# Altium footprint library UVS-PcbLib.PcbLib: 37 footprints (part 1 of 3)
Each footprint in its own frame and in the unit in brackets; x right, y up, seen from the top. Pads: shape width x height; smd on the part's side, far side on the other; paste and mask are expansions set on the pad; w line width, h text height; cw(c..) or ccw(c..) is an arc to the next point about the centre after c.
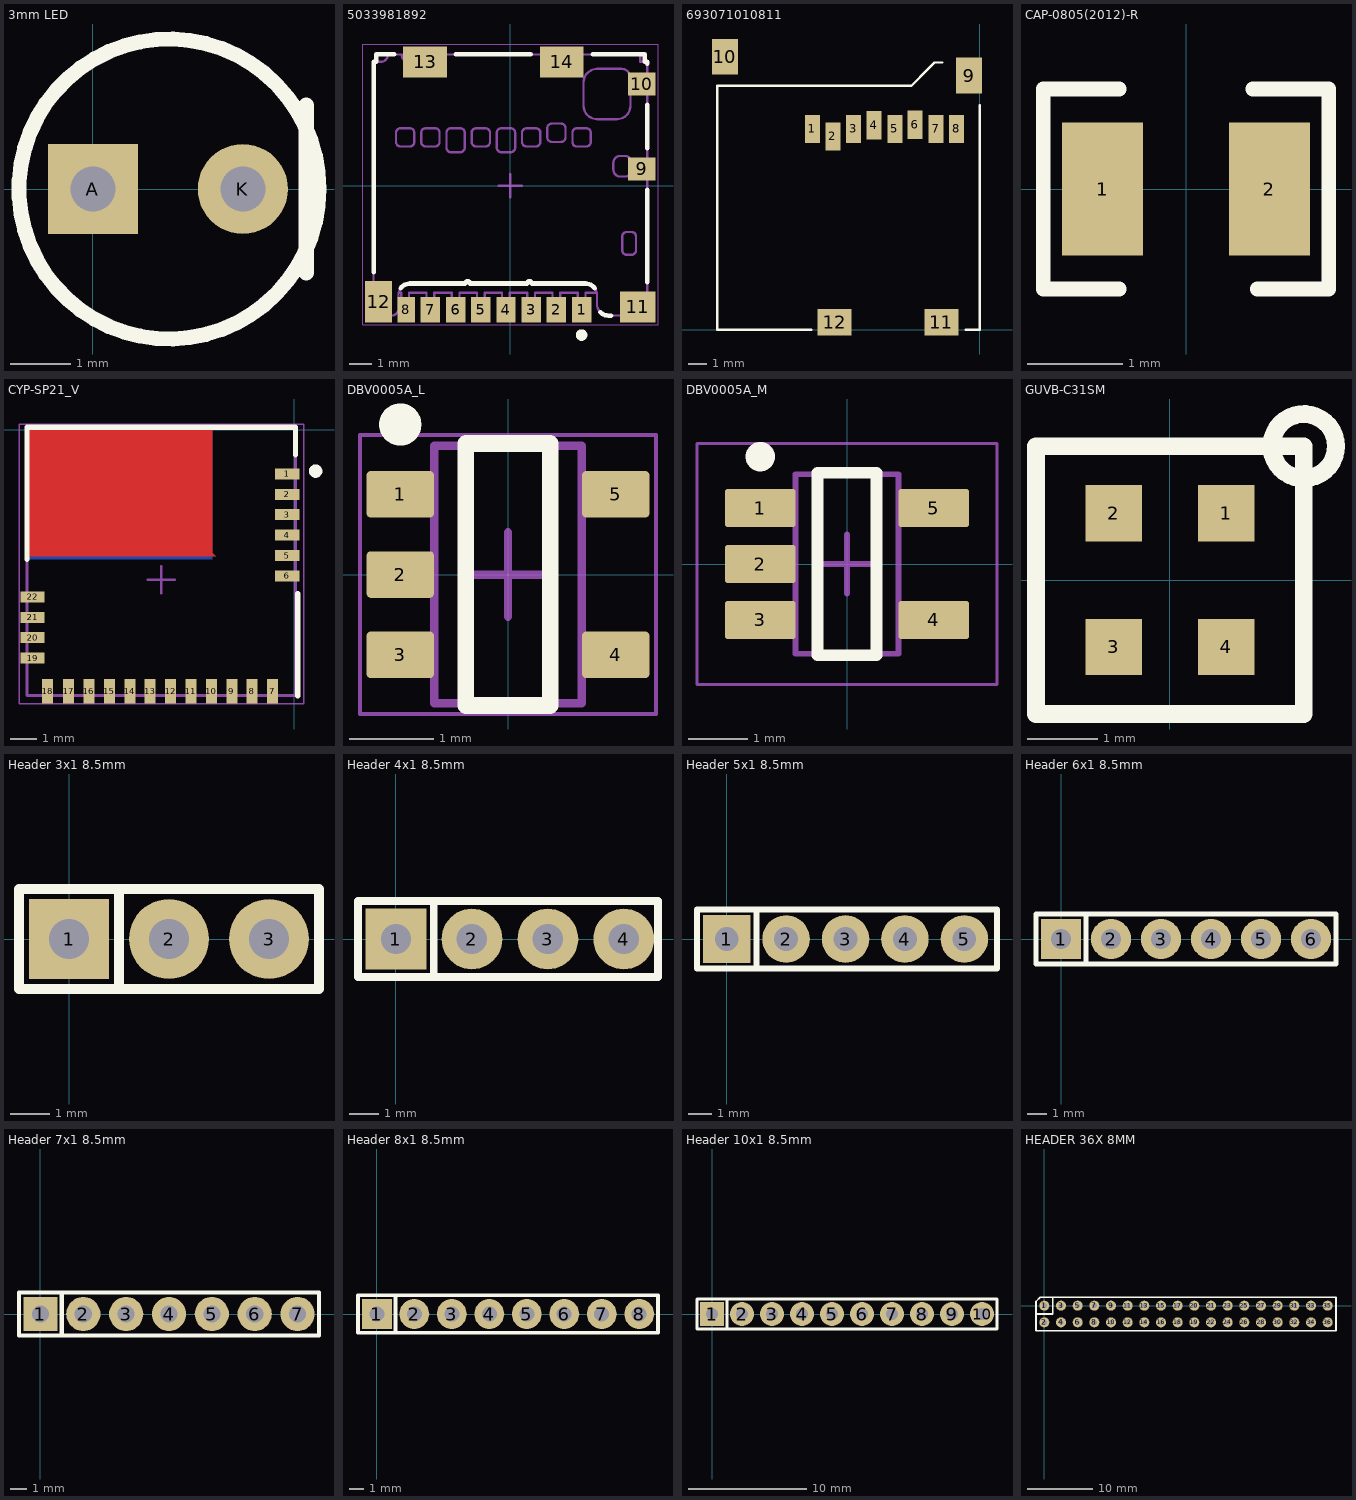
[diagram p0: the footprints below, top view; thin cyan lines are the x and y axes]

## 3mm LED [mm] "UV LED"
pads (2):
  rect 1.5x1.5 hole 0.75: A(0,0)
  round 1.5 hole 0.75: K(2.5,0)
Top Overlay:
  circle w0.25: c1.27,0 r2.5
  lines w0.254: 3.556,-1.397 3.556,1.397
3D body "3mm LED.STEP": height 6.3, standoff -4.1, extent -0.63,-1.9 2.77,1.9

## 5033981892 [mm] "Micro SD, 8-Leads, Body 11.95x11.4mm, Pitch 1.1mm"
height 1.57
pads (14):
  rect 0.85x1.1 smd: 1(3.113,-5.412) 2(2.013,-5.412) 3(0.913,-5.412) 4(-0.188,-5.412) 5(-1.288,-5.412) 6(-2.387,-5.412) 7(-3.487,-5.412)
  rect 0.75x1.1 smd: 8(-4.537,-5.412)
  rect 1.2x1 smd: 9(5.748,0.738) 10(5.748,4.438)
  rect 1.55x1.35 smd: 11(5.573,-5.287)
  rect 1.17x1.8 smd: 12(-5.747,-5.062)
  rect 1.9x1.35 smd: 13(-3.722,5.413) 14(2.248,5.413)
Top Overlay:
  circle w0.25: c3.113,-6.512 r0.125
  lines w0.2: -5.968,-3.762 -5.968,5.418 -5.848,5.418 -5.848,5.738 -5.343,5.738 -5.072,5.738 ; -4.777,-4.462 cw(c-4.378,-4.762) -4.378,-4.262 -1.962,-4.262 cw(c-1.862,-4.262) -1.862,-4.162 cw(c-1.862,-4.262) -1.762,-4.262 0.738,-4.262 cw(c0.838,-4.262) 0.838,-4.162 cw(c0.838,-4.262) 0.938,-4.262 3.283,-4.262 cw(c3.283,-4.762) 3.692,-4.476 ; -2.372,5.738 0.898,5.738 ; 3.598,5.738 5.678,5.738 5.863,5.738 5.863,5.418 5.983,5.418 5.983,5.338 ; 3.938,-5.525 ccw(c4.283,-5.162) 4.283,-5.662 4.397,-5.662 ; 5.977,-4.212 5.977,-0.162 ; 5.983,1.638 5.983,3.538
Mechanical 13:
  drawing of 227 lines, arcs and shapes, not listed
Mechanical 15:
  lines w0.05: -6.432,-6.062 -6.432,6.188 6.448,6.188 6.448,-6.062 -6.432,-6.062
  lines w0.1: -0.5,0 0.5,0 ; 0,-0.5 0,0.5
3D body "1040310811.stp": height 1.45, standoff 0, extent -5.967,-5.662 5.983,5.738

## 693071010811 [mm] "Wurth CONN MICRO SD CARD PUSH-PUSH R/A"
pads (12):
  rect 0.8x1.5 smd: 1(-8.94,10.7) 2(-7.84,10.3) 3(-6.74,10.7) 4(-5.64,10.9) 5(-4.54,10.7) 6(-3.454,10.929) 7(-2.34,10.7) 8(-1.24,10.7)
  rect 1.4x1.9 smd: 9(-0.575,13.55) 10(-13.6,14.55)
  rect 1.8x1.4 smd: 11(-2.05,0.4) 12(-7.75,0.4)
Top Overlay:
  lines w0.127: -9,0 -14,0 -14,13 -3.662,13 -2.769,13.894 -2.413,14.249 -2.007,14.249 ; -0.75,0 0,0 0,11.963
3D body "Download_STP_693071010811 (rev1).stp": height 1.84, standoff -0.06, extent -13.951,-0.042 0.049,15.158

## CAP-0805(2012)-R [mm] "Capacitor 0805(2012) Reflow"
pads (2):
  rect 0.85x1.4 smd: 1(-0.875,0) 2(0.875,0)
Top Overlay:
  lines w0.152: -0.7,-1.05 -1.5,-1.05 -1.5,1.05 -0.7,1.05 ; 0.7,1.05 1.5,1.05 1.5,-1.05 0.75,-1.05
3D body "CAP0805.stp": height 0.78, standoff 0, extent -1,-0.625 1,0.625

## CYP-SP21_V [mm] "Module, 2-Leads, Body 10x10mm"
height 1.8
pads (22):
  rect 0.91x0.41 smd: 1(-0.26,-1.64) 2(-0.26,-2.4) 3(-0.26,-3.16) 4(-0.26,-3.92) 5(-0.26,-4.68) 6(-0.26,-5.439) 19(-9.75,-8.502) 20(-9.75,-7.742) 21(-9.75,-6.982) 22(-9.75,-6.22)
  rect 0.41x0.91 smd: 7(-0.807,-9.728) 8(-1.567,-9.728) 9(-2.327,-9.728) 10(-3.087,-9.728) 11(-3.847,-9.728) 12(-4.607,-9.728) 13(-5.367,-9.728) 14(-6.127,-9.728) 15(-6.887,-9.728) 16(-7.647,-9.728) 17(-8.407,-9.728) 18(-9.19,-9.74)
Top Layer:
  pour cut-out: -9.906,0.127 -9.906,-4.699 -2.921,-4.699 -3.048,-4.572 -3.048,0.127
Bottom Layer:
  pour cut-out: -9.906,0 -9.906,-4.826 -3.048,-4.826 -3.048,0
Top Overlay:
  circle w0.25: c0.797,-1.535 r0.125
  lines w0.2: -9.953,-4.826 -9.953,0.105 0.047,0.105 0.047,-0.93 ; 0.127,-9.906 0.127,-6.096
Mechanical 13:
  lines w0.1: -9.953,-9.895 0.047,-9.895 0.047,0.105 -9.953,0.105 -9.953,-9.895
Mechanical 15:
  lines w0.05: -10.253,-10.195 0.347,-10.195 0.347,0.205 -10.253,0.205 -10.253,-10.195
  lines w0.1: -5.453,-5.588 -4.453,-5.588 ; -4.953,-6.088 -4.953,-5.088
3D body: height 1.8, standoff 0.5, extent -9.953,-4.895 -2.953,0.105
3D body: height 0.5, standoff 0, extent -9.953,-9.895 0.047,0.105
3D body: height 1.1, standoff 0.5, extent -9.953,-9.895 0.047,0.105

## DBV0005A_L [mm] "SOT23, 5-Leads, Body 3.05x1.75mm, Pitch 0.95mm, IPC High Density"
height 1.45
pads (5):
  rrect18% 0.8x0.55 smd: 1(-1.275,0.95) 2(-1.275,0) 3(-1.275,-0.95) 4(1.275,-0.95) 5(1.275,0.95)
Top Overlay:
  circle w0.25: c-1.275,1.775 r0.125
  lines w0.2: -0.5,-1.55 -0.5,1.55 0.5,1.55 0.5,-1.55 -0.5,-1.55
Mechanical 1:
  text ".Designator" at -0.635,-0.254 h0.4
Mechanical 13:
  lines w0.1: -0.875,-1.525 0.875,-1.525 0.875,1.525 -0.875,1.525 -0.875,-1.525
Mechanical 15:
  lines w0.05: -1.75,-1.65 1.75,-1.65 1.75,1.65 -1.75,1.65 -1.75,-1.65
  lines w0.1: -0.5,0 0.5,0 ; 0,-0.5 0,0.5
3D body "DBV0005AaksMF05A.stp": height 1.08, standoff -0.01, extent -1.422,-1.461 1.422,1.46

## DBV0005A_M [mm] "SOT23, 5-Leads, Body 3.05x1.75mm, Pitch 0.95mm, IPC Low Density"
height 1.45
pads (5):
  rrect15% 1.2x0.65 smd: 1(-1.475,0.95) 2(-1.475,0) 3(-1.475,-0.95) 4(1.475,-0.95) 5(1.475,0.95)
Top Overlay:
  circle w0.25: c-1.475,1.825 r0.125
  lines w0.2: -0.5,-1.55 -0.5,1.55 0.5,1.55 0.5,-1.55 -0.5,-1.55
Mechanical 1:
  text ".Designator" at -0.635,-0.127 h0.4
Mechanical 13:
  lines w0.1: -0.875,-1.525 0.875,-1.525 0.875,1.525 -0.875,1.525 -0.875,-1.525
Mechanical 15:
  lines w0.05: -2.55,-2.05 2.55,-2.05 2.55,2.05 -2.55,2.05 -2.55,-2.05
  lines w0.1: -0.5,0 0.5,0 ; 0,-0.5 0,0.5
3D body "DBV0005AaksMF05A.stp": height 1.08, standoff -0.01, extent -1.422,-1.461 1.422,1.46

## GUVB-C31SM [mm]
pads (4):
  rect 0.8x0.8 smd: 1(0.8,0.95) 2(-0.8,0.95) 3(-0.8,-0.95) 4(0.8,-0.95)
Top Overlay:
  circle w0.254: c1.905,1.905 r0.458
  lines w0.254: -1.905,-1.905 1.905,-1.905 1.905,1.905 -1.905,1.905 -1.905,-1.905
3D body "guvb_c31sm.STEP": height 1.4, standoff 0, extent -1,-1.15 1,1.15

## Header 3x1 8.5mm [mil] "Stackable 3 pin header"
pads (3):
  rect 80x80 hole 40: 1(0,0)
  round 80 hole 40: 2(100,0) 3(200,0)
Top Overlay:
  lines w10: 50,-50 250,-50 250,50 50,50 ; 50,-50 50,50 ; 50,-50 -50,-50 -50,0 -50,50 50,50
3D body "Pin Header 3 x1 TH 2.54mm Pitch.stp": height 350, standoff -100, extent -49.99,-50 250.01,50

## Header 4x1 8.5mm [mil] "Stackable 4 pin header"
pads (4):
  rect 80x80 hole 40: 1(0,0)
  round 80 hole 40: 2(100,0) 3(200,0) 4(300,0)
Top Overlay:
  lines w10: 50,-50 345,-50 345,50 50,50 ; 50,-50 50,50 ; 50,-50 -50,-50 -50,0 -50,50 50,50
3D body "Pin Header 4 x 1 TH 2.54mm Pitch.stp": height 200, standoff -250, extent -50,-50 350,50

## Header 5x1 8.5mm [mil] "Stackable 5 pin header"
pads (5):
  rect 80x80 hole 40: 1(0,0)
  round 80 hole 40: 2(100,0) 3(200,0) 4(300,0) 5(400,0)
Top Overlay:
  lines w10: 50,-50 50,50 ; 50,-50 455,-50 455,50 50,50 ; 50,-50 -50,-50 -50,0 -50,50 50,50
3D body "Pin Header 4 x 1 TH 2.54mm Pitch.stp": height 358.27, standoff -91.73, extent -50,-50 350,50

## Header 6x1 8.5mm [mil] "Stackable 6 pin header"
pads (6):
  rect 80x80 hole 40: 1(0,0)
  round 80 hole 40: 2(100,0) 3(200,0) 4(300,0) 5(400,0) 6(500,0)
Top Overlay:
  lines w10: 50,-50 550,-50 550,50 50,50 ; 50,-50 50,50 ; 50,-50 -50,-50 -50,0 -50,50 50,50
3D body "SIL_Socket06.stp": height 334.65, standoff -584.65, extent -49.99,-49.99 550.01,50.01

## Header 7x1 8.5mm [mil] "Stackable 7 pin header"
pads (7):
  rect 80x80 hole 40: 1(0,0)
  round 80 hole 40: 2(100,0) 3(200,0) 4(300,0) 5(400,0) 6(500,0) 7(600,0)
Top Overlay:
  lines w10: 50,-50 50,50 ; -50,-50 650,-50 650,50 -50,50 -50,-50
3D body "Pin Header 7 x 1 TH 2.54mm Pitch.stp": height 200, standoff -250, extent -50,-50 650,50

## Header 8x1 8.5mm [mil] "Stackable 8 pin header"
pads (8):
  rect 80x80 hole 40: 1(0,0)
  round 80 hole 40: 2(100,0) 3(200,0) 4(300,0) 5(400,0) 6(500,0) 7(600,0) 8(700,0)
Top Overlay:
  lines w10: 50,-50 50,50 ; -50,-50 -50,50 750,50 750,-50 -50,-50
3D body "SIL_Socket08_.stp": height 334.65, standoff -584.65, extent -50,-49.99 750,50.01

## Header 10x1 8.5mm [mil] "Stackable 10 pin header"
pads (10):
  rect 80x80 hole 40: 1(0,0)
  round 80 hole 40: 2(100,0) 3(200,0) 4(300,0) 5(400,0) 6(500,0) 7(600,0) 8(700,0) 9(800,0) 10(900,0)
Top Overlay:
  lines w10: 50,-50 -50,-50 -50,50 50,50 ; 50,-50 950,-50 950,50 50,50 ; 50,-50 50,50
3D body "SIL_Socket10.stp": height 334.65, standoff -584.65, extent -50,-50 950,50

## HEADER 36X 8MM [mil] "Stackable 10 pin header"
pads (36):
  round 60 hole 30: 1(0,0) 2(0,-100) 3(100,0) 4(100,-100) 5(200,0) 6(200,-100) 7(300,0) 8(300,-100) 9(400,0) 10(400,-100) 11(500,0) 12(500,-100) 13(600,0) 14(600,-100) 15(700,0) 16(700,-100) 17(800,0) 18(800,-100) 19(900,-100) 20(900,0) 21(1000,0) 22(1000,-100) 23(1100,0) 24(1100,-100) 25(1200,0) 26(1200,-100) 27(1300,0) 28(1300,-100) 29(1400,0) 30(1400,-100) 31(1500,0) 32(1500,-100) 33(1600,0) 34(1600,-100) 35(1700,0) 36(1700,-100)
Top Overlay:
  lines w10: -50,-50 50,-50 50,50 ; -50,-150 -50,25 -25,50 1750,50 1750,-150 -50,-150
3D body "SIL_Socket36.stp": height 334.65, standoff -584.65, extent -50,-150 1750,50